# Altium schematic symbol library Sborka_2Dioda_1A2K3AK.SchLib: 1 symbol
Pins are listed as number, name and electrical type; pins without a type are passive.

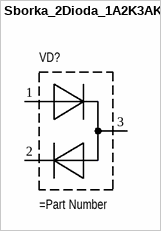
[diagram p0: symbol Sborka_2Dioda_1A2K3AK]

## Sborka_2Dioda_1A2K3AK
designator VD?
pins: 1 A1, 2 C2, 3 AC